# Altium footprint library BB.001.00.00.PcbLib: 93 footprints (part 4 of 6)
Each footprint in its own frame and in the unit in brackets; x right, y up, seen from the top. Pads: shape width x height; smd on the part's side, far side on the other; paste and mask are expansions set on the pad; w line width, h text height; cw(c..) or ccw(c..) is an arc to the next point about the centre after c.
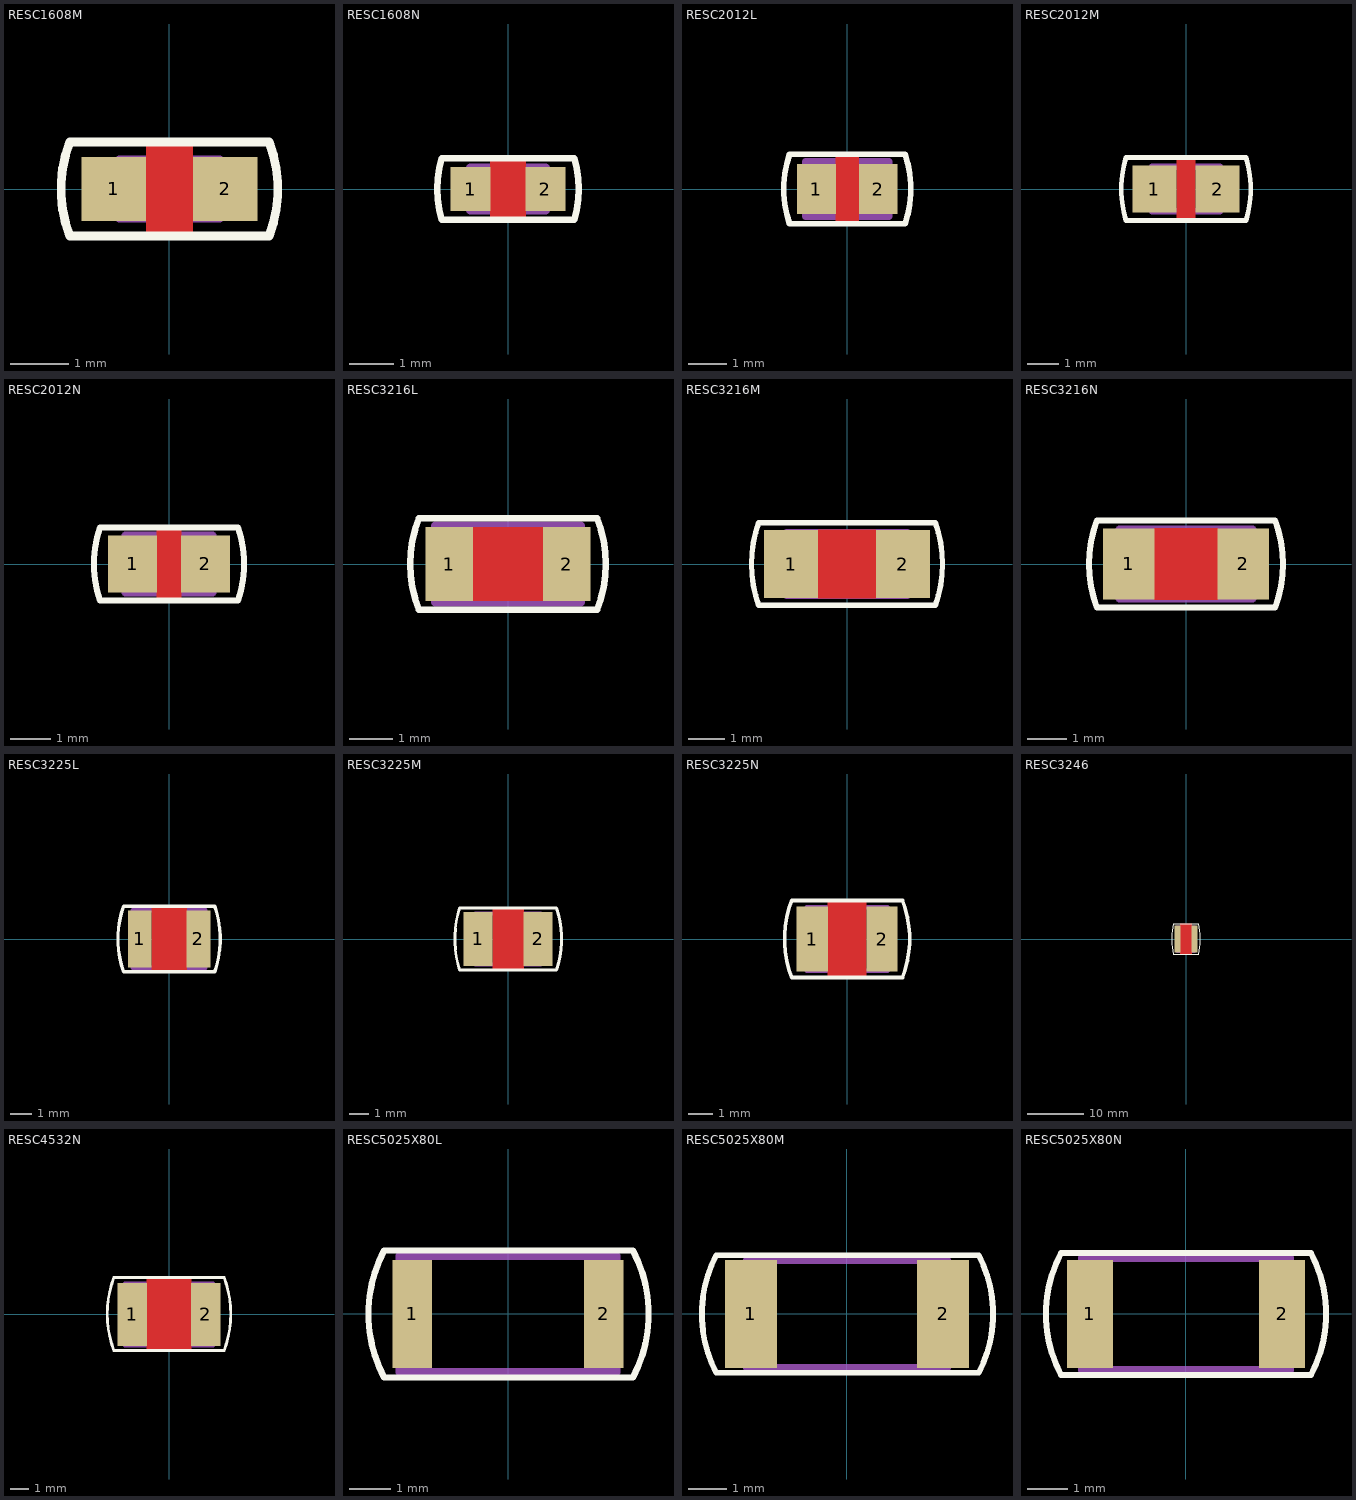
[diagram p3: the footprints below, top view; thin cyan lines are the x and y axes]

## RESC1608M [mm] "Chip Resistor, Body 1.6x0.8mm, IPC Low Density"
height 0.6
pads (2):
  rect 1.1x1.1 smd: 1(-0.95,0) 2(0.95,0)
Top Layer:
  pour cut-out: -0.4,0.8 -0.4,-0.8 0.4,-0.8 0.4,0.8
Top Overlay:
  lines w0.15: -1.7,-0.8 cw(c0.35,0) -1.7,0.8 1.7,0.8 cw(c-0.358,0) 1.7,-0.8 -1.7,-0.8
TopAsy:
  lines w0.2: -0.85,-0.475 0.85,-0.475 0.85,0.475 -0.85,0.475 -0.85,-0.475
3D body: height 0.6, standoff 0, extent -0.85,-0.475 0.85,0.475

## RESC1608N [mm] "Chip Resistor, Body 1.6x0.8mm, IPC Medium Density"
height 0.6
pads (2):
  rect 0.9x1 smd: 1(-0.85,0) 2(0.85,0)
Top Layer:
  pour cut-out: -0.4,0.7 -0.4,-0.7 0.4,-0.7 0.4,0.7
Top Overlay:
  lines w0.15: -1.5,-0.7 cw(c0.9,0) -1.5,0.7 1.5,0.7 cw(c-0.9,0) 1.5,-0.7 -1.5,-0.7
TopAsy:
  lines w0.2: -0.85,-0.475 0.85,-0.475 0.85,0.475 -0.85,0.475 -0.85,-0.475
3D body: height 0.6, standoff 0, extent -0.85,-0.475 0.85,0.475

## RESC2012L [mm] "Chip Resistor, Body 2.0x1.3mm, IPC High Density"
height 0.65
pads (2):
  rect 1x1.3 smd: 1(-0.8,0) 2(0.8,0)
Top Layer:
  pour cut-out: -0.3,0.9 -0.3,-0.9 0.3,-0.9 0.3,0.9
Top Overlay:
  lines w0.15: -1.5,-0.9 cw(c1.117,0) -1.5,0.9 1.5,0.9 cw(c-1.125,0) 1.5,-0.9 -1.5,-0.9
TopAsy:
  lines w0.2: -1.075,-0.7 -1.075,0.7 1.075,0.7 1.075,-0.7 -1.075,-0.7
3D body: height 0.65, standoff 0, extent -1.075,-0.7 1.075,0.7

## RESC2012M [mm] "Chip Resistor, Body 2.0x1.3mm, IPC Low Density"
height 0.65
pads (2):
  rect 1.4x1.5 smd: 1(-1,0) 2(1,0)
Top Layer:
  pour cut-out: -0.3,1 -0.3,-1 0.3,-1 0.3,1
Top Overlay:
  lines w0.15: -1.9,-1 cw(c1.35,0) -1.9,1 1.9,1 cw(c-1.35,0) 1.9,-1 -1.9,-1
TopAsy:
  lines w0.2: -1.075,-0.7 1.075,-0.7 1.075,0.7 -1.075,0.7 -1.075,-0.7
3D body: height 0.65, standoff 0, extent -1.075,-0.7 1.075,0.7

## RESC2012N [mm] "Chip Resistor, Body 2.0x1.3mm, IPC Medium Density"
height 0.65
pads (2):
  rect 1.2x1.4 smd: 1(-0.9,0) 2(0.9,0)
Top Layer:
  pour cut-out: -0.3,0.9 -0.3,-0.9 0.3,-0.9 0.3,0.9
Top Overlay:
  lines w0.15: -1.7,-0.9 cw(c0.925,0) -1.7,0.9 1.7,0.9 cw(c-0.925,0) 1.7,-0.9 -1.7,-0.9
TopAsy:
  lines w0.2: -1.075,-0.7 -1.075,0.7 1.075,0.7 1.075,-0.7 -1.075,-0.7
3D body: height 0.65, standoff 0, extent -1.075,-0.7 1.075,0.7

## RESC3216L [mm] "Chip Resistor, Body 3.2x1.6mm, IPC High Density"
height 0.71
pads (2):
  rect 1.1x1.7 smd: 1(-1.35,0) 2(1.35,0)
Top Layer:
  pour cut-out: -0.8,0.85 -0.8,-0.85 0.8,-0.85 0.8,0.85
Top Overlay:
  lines w0.15: -2.05,-1.05 cw(c0.6,0) -2.05,1.05 2.05,1.05 cw(c-0.6,0) 2.05,-1.05 -2.05,-1.05
TopAsy:
  lines w0.2: -1.675,-0.875 1.675,-0.875 1.675,0.875 -1.675,0.875 -1.675,-0.875
3D body: height 0.71, standoff 0, extent -1.675,-0.875 1.675,0.875

## RESC3216M [mm] "Chip Resistor, Body 3.2x1.6mm, IPC Low Density"
height 0.71
pads (2):
  rect 1.5x1.9 smd: 1(-1.55,0) 2(1.55,0)
Top Layer:
  pour cut-out: -0.8,0.95 -0.8,-0.95 0.8,-0.95 0.8,0.95
Top Overlay:
  lines w0.15: -2.45,-1.15 cw(c0.756,0) -2.45,1.15 2.45,1.15 cw(c-0.756,0) 2.45,-1.15 -2.45,-1.15
TopAsy:
  lines w0.2: -1.675,-0.875 1.675,-0.875 1.675,0.875 -1.675,0.875 -1.675,-0.875
3D body: height 0.71, standoff 0, extent -1.675,-0.875 1.675,0.875

## RESC3216N [mm] "Chip Resistor, Body 3.2x1.6mm, IPC Medium Density"
height 0.71
pads (2):
  rect 1.3x1.8 smd: 1(-1.45,0) 2(1.45,0)
Top Layer:
  pour cut-out: -0.8,0.9 0.8,0.9 0.8,-0.9 -0.8,-0.9
Top Overlay:
  lines w0.15: -2.25,-1.1 cw(c0.669,0) -2.25,1.1 2.25,1.1 cw(c-0.669,0) 2.25,-1.1 -2.25,-1.1
TopAsy:
  lines w0.2: -1.675,-0.875 1.675,-0.875 1.675,0.875 -1.675,0.875 -1.675,-0.875
3D body: height 0.71, standoff 0, extent -1.675,-0.875 1.675,0.875

## RESC3225L [mm] "Chip Resistor, Body 3.2x2.5mm, IPC High Density"
height 0.71
pads (2):
  rect 1.1x2.6 smd: 1(-1.35,0) 2(1.35,0)
Top Layer:
  pour cut-out: -0.8,1.5 -0.8,-1.5 0.8,-1.5 0.8,1.5
Top Overlay:
  lines w0.15: -2.1,-1.5 cw(c2.27,0) -2.1,1.5 2.1,1.5 cw(c-2.275,0) 2.1,-1.5 -2.1,-1.5
TopAsy:
  lines w0.2: -1.675,-1.32 1.675,-1.32 1.675,1.32 -1.675,1.32 -1.675,-1.32
3D body: height 0.71, standoff 0, extent -1.675,-1.32 1.675,1.32

## RESC3225M [mm] "Chip Resistor, Body 3.2x2.5mm, IPC Low Density"
height 0.71
pads (2):
  rect 1.5x2.8 smd: 1(-1.55,0) 2(1.55,0)
Top Layer:
  pour cut-out: -0.8,1.6 -0.8,-1.6 0.8,-1.6 0.8,1.6
Top Overlay:
  lines w0.15: -2.5,-1.6 cw(c2.49,0) -2.5,1.6 2.5,1.6 cw(c-2.495,0) 2.5,-1.6 -2.5,-1.6
TopAsy:
  lines w0.2: -1.675,-1.32 1.675,-1.32 1.675,1.32 -1.675,1.32 -1.675,-1.32
3D body: height 0.71, standoff 0, extent -1.675,-1.32 1.675,1.32

## RESC3225N [mm] "Chip Resistor, Body 3.2x2.5mm, IPC Medium Density"
height 0.71
pads (2):
  rect 1.3x2.7 smd: 1(-1.45,0) 2(1.45,0)
Top Layer:
  pour cut-out: -0.8,1.6 -0.8,-1.6 0.8,-1.6 0.8,1.6
Top Overlay:
  lines w0.15: -2.3,-1.6 cw(c1.813,0) -2.3,1.6 2.3,1.6 cw(c-1.817,0) 2.3,-1.6 -2.3,-1.6
TopAsy:
  lines w0.2: -1.675,-1.32 1.675,-1.32 1.675,1.32 -1.675,1.32 -1.675,-1.32
3D body: height 0.71, standoff 0, extent -1.675,-1.32 1.675,1.32

## RESC3246 [mm] "Chip Resistor, 2-Leads, Body 3,2x4,6mm, IPC Medium Density"
height 0.6
pads (2):
  rect 1.05x4.8 smd: 1(-1.5,0) 2(1.5,0)
Top Layer:
  pour cut-out: -1,2.7 -1,-2.7 1,-2.7 1,2.7
Top Overlay:
  lines w0.15: -2.3,-2.7 cw(c12.155,0) -2.3,2.7 2.3,2.7 cw(c-12.155,0) 2.3,-2.7 -2.3,-2.7
TopAsy:
  lines w0.2: -1.65,-2.375 -1.65,2.375 1.65,2.375 1.65,-2.375 -1.65,-2.375
3D body: height 0.6, standoff 0, extent -1.65,-2.375 1.65,2.375

## RESC4532N [mm] "Chip Resistor, Body 4.5x3.2mm, IPC Medium Density"
height 0.71
pads (2):
  rect 1.6x3.4 smd: 1(-2,0) 2(2,0)
Top Layer:
  pour cut-out: -1.2,2 -1.2,-1.95 1.2,-1.95 1.2,2
Top Overlay:
  lines w0.15: -3,-1.95 cw(c2.396,0.025) -3,2 3,2 cw(c-2.396,0.025) 3,-1.95 -3,-1.95
TopAsy:
  lines w0.2: -2.4,-1.7 -2.4,1.7 2.4,1.7 2.4,-1.7 -2.4,-1.7
3D body "MF-MSMF.STEP": height 1.09, standoff -0.01, extent -2.25,-1.625 2.25,1.625

## RESC5025X80L [mm] "SMD; Body:50,25Х2,54Х0,8mm; Чип-резистор"
height 0.8
pads (2):
  rect 0.95x2.6 smd paste+0: 1(-2.3,0) 2(2.3,0)
Top Overlay:
  lines w0.15: -2.975,-1.525 cw(c-0.061,0) -2.975,1.525 3,1.525 cw(c0.086,0) 3,-1.525 -2.975,-1.525
TopAsy:
  lines w0.2: -2.6,-1.4 2.6,-1.4 2.6,1.4 -2.6,1.4 -2.6,-1.4
3D body "R2010.STEP": height 0.47, standoff 0, extent -2.5,-1.251 2.5,1.251

## RESC5025X80M [mm] "SMD; Body:50,25Х2,54Х0,8mm; Чип-резистор"
height 0.8
pads (2):
  rect 1.35x2.8 smd paste+0: 1(-2.5,0) 2(2.5,0)
Top Overlay:
  lines w0.15: -3.4,-1.525 cw(c-0.486,0) -3.4,1.525 3.425,1.525 cw(c0.511,0) 3.425,-1.525 -3.4,-1.525
TopAsy:
  lines w0.2: -2.6,-1.4 -2.6,1.4 2.6,1.4 2.6,-1.4 -2.6,-1.4
3D body "R2010.STEP": height 0.47, standoff 0, extent -2.5,-1.251 2.5,1.251

## RESC5025X80N [mm] "SMD; Body:50,25Х2,54Х0,8mm; Чип-резистор"
height 0.8
pads (2):
  rect 1.15x2.7 smd paste+0: 1(-2.4,0) 2(2.4,0)
Top Overlay:
  lines w0.15: -3.125,-1.525 cw(c-0.211,0) -3.125,1.525 3.125,1.525 cw(c0.211,0) 3.125,-1.525 -3.125,-1.525
TopAsy:
  lines w0.2: -2.6,-1.4 2.6,-1.4 2.6,1.4 -2.6,1.4 -2.6,-1.4
3D body "R2010.STEP": height 0.47, standoff 0, extent -2.5,-1.251 2.5,1.251